# Altium integrated library Xilinx Spartan XL.IntLib: 50 symbols (part 2 of 5)
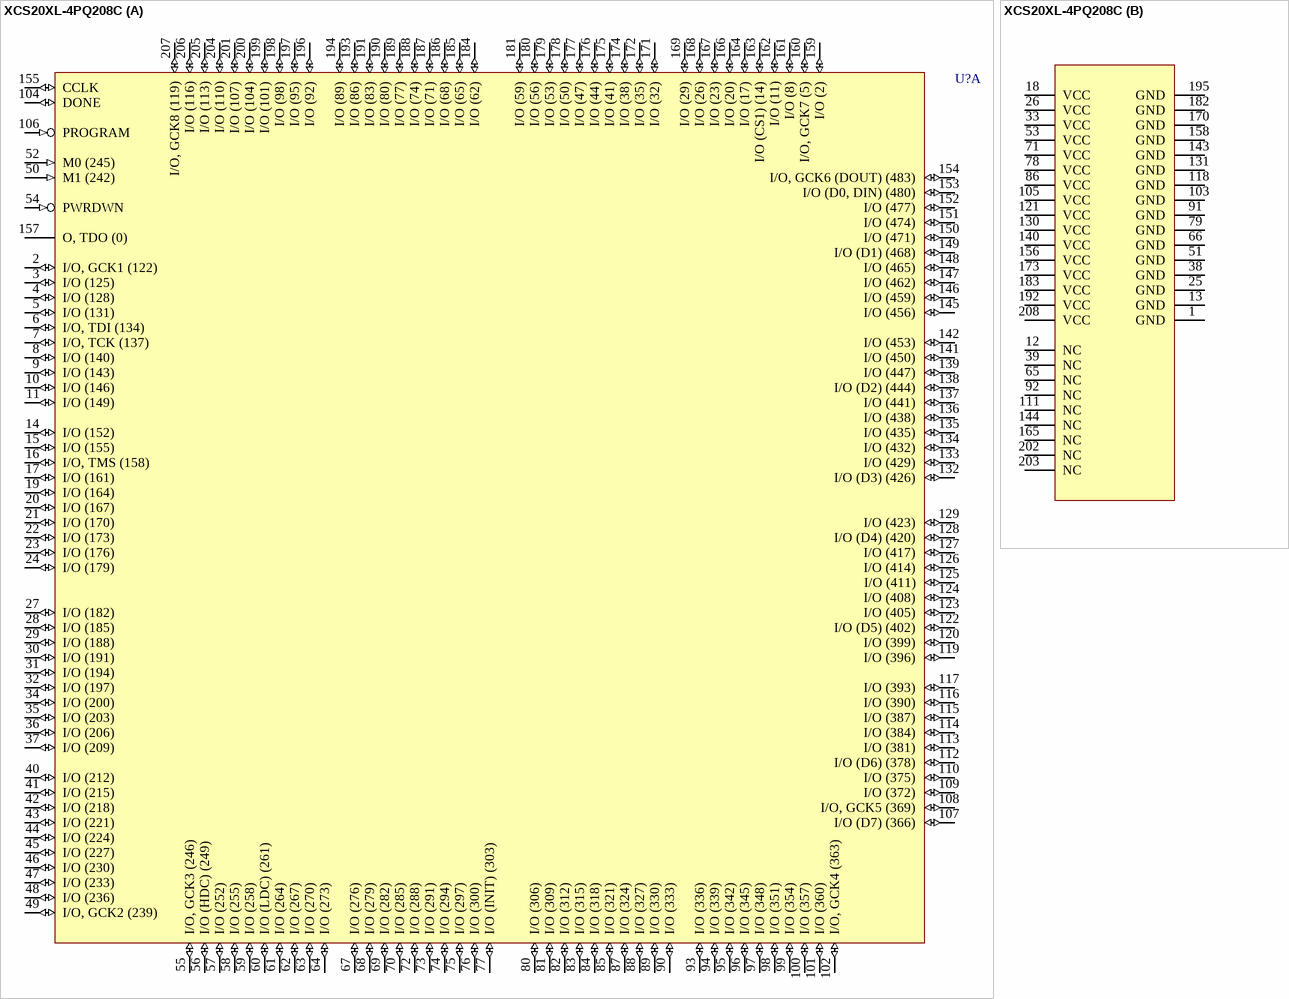
[diagram p33: symbol XCS20XL-4PQ208C]

## XCS20XL-4PQ208C
designator U?
Spartan XL FPGA, 208-Pin PQFP, Commercial Grade; Published: 13-Jul-2001; LatestRevisionDate: 13-Apr-2006; LatestRevisionNote: IPC-7351 Footprint Added.; DatasheetVersion: Jun-2002; PackageVersion: ver1.2, Jun-2004; PackageReference: PQ208; Publisher: Altium Limited; PackageDescription: 208-Pin Plastic Quad Flat Pack (PQ208); Code_JEDEC: MS-029-FA-1; ComponentLink1Description: Manufacturer Link; ComponentLink1URL: http://www.xilinx.com/xlnx/xil_prodcat_landingpage.jsp?title=Spartan; ComponentLink2Description: Datasheet; ComponentLink2URL: http://www.xilinx.com/bvdocs/publications/ds060.pdf
footprint PQ208_N (Shrink QFP, 208-Leads, Body 28x28mm, Pitch 0.5mm, IPC Medium Density)
footprint PQ208_L (Shrink QFP, 208-Leads, Body 28x28mm, Pitch 0.5mm, IPC High Density)
footprint PQ208_M (Shrink QFP, 208-Leads, Body 28x28mm, Pitch 0.5mm, IPC Low Density)
3D model XCS20XL-PQ208 (208-Pin Plastic Quad Flat Pack (PQ208))
part A pins: 2 I/O, GCK1 (122) (io), 3 I/O (125) (io), 4 I/O (128) (io), 5 I/O (131) (io), 6 I/O, TDI (134) (io), 7 I/O, TCK (137) (io), 8 I/O (140) (io), 9 I/O (143) (io), 10 I/O (146) (io), 11 I/O (149) (io), 14 I/O (152) (io), 15 I/O (155) (io), 16 I/O, TMS (158) (io), 17 I/O (161) (io), 19 I/O (164) (io), 20 I/O (167) (io), 21 I/O (170) (io), 22 I/O (173) (io), 23 I/O (176) (io), 24 I/O (179) (io), 27 I/O (182) (io), 28 I/O (185) (io), 29 I/O (188) (io), 30 I/O (191) (io), 31 I/O (194) (io), 32 I/O (197) (io), 34 I/O (200) (io), 35 I/O (203) (io), 36 I/O (206) (io), 37 I/O (209) (io), 40 I/O (212) (io), 41 I/O (215) (io), 42 I/O (218) (io), 43 I/O (221) (io), 44 I/O (224) (io), 45 I/O (227) (io), 46 I/O (230) (io), 47 I/O (233) (io), 48 I/O (236) (io), 49 I/O, GCK2 (239) (io), 50 M1 (242) (in), 52 M0 (245) (in), 54 PWRDWN (in), 55 I/O, GCK3 (246) (io), 56 I/O (HDC) (249) (io), 57 I/O (252) (io), 58 I/O (255) (io), 59 I/O (258) (io), 60 I/O (LDC) (261) (io), 61 I/O (264) (io), 62 I/O (267) (io), 63 I/O (270) (io), 64 I/O (273) (io), 67 I/O (276) (io), 68 I/O (279) (io), 69 I/O (282) (io), 70 I/O (285) (io), 72 I/O (288) (io), 73 I/O (291) (io), 74 I/O (294) (io), 75 I/O (297) (io), 76 I/O (300) (io), 77 I/O (INIT) (303) (io), 80 I/O (306) (io), 81 I/O (309) (io), 82 I/O (312) (io), 83 I/O (315) (io), 84 I/O (318) (io), 85 I/O (321) (io), 87 I/O (324) (io), 88 I/O (327) (io), 89 I/O (330) (io), 90 I/O (333) (io), 93 I/O (336) (io), 94 I/O (339) (io), 95 I/O (342) (io), 96 I/O (345) (io), 97 I/O (348) (io), 98 I/O (351) (io), 99 I/O (354) (io), 100 I/O (357) (io), 101 I/O (360) (io), 102 I/O, GCK4 (363) (io), 104 DONE (io), 106 PROGRAM (in), 107 I/O (D7) (366) (io), 108 I/O, GCK5 (369) (io), 109 I/O (372) (io), 110 I/O (375) (io), 112 I/O (D6) (378) (io), 113 I/O (381) (io), 114 I/O (384) (io), 115 I/O (387) (io), 116 I/O (390) (io), 117 I/O (393) (io), 119 I/O (396) (io), 120 I/O (399) (io), 122 I/O (D5) (402) (io), 123 I/O (405) (io), 124 I/O (408) (io), 125 I/O (411) (io), 126 I/O (414) (io), 127 I/O (417) (io), 128 I/O (D4) (420) (io), 129 I/O (423) (io), 132 I/O (D3) (426) (io), 133 I/O (429) (io), 134 I/O (432) (io), 135 I/O (435) (io), 136 I/O (438) (io), 137 I/O (441) (io), 138 I/O (D2) (444) (io), 139 I/O (447) (io), 141 I/O (450) (io), 142 I/O (453) (io), 145 I/O (456) (io), 146 I/O (459) (io), 147 I/O (462) (io), 148 I/O (465) (io), 149 I/O (D1) (468) (io), 150 I/O (471) (io), 151 I/O (474) (io), 152 I/O (477) (io), 153 I/O (D0, DIN) (480) (io), 154 I/O, GCK6 (DOUT) (483) (io), 155 CCLK (io), 157 O, TDO (0) (hiz), 159 I/O (2) (io), 160 I/O, GCK7 (5) (io), 161 I/O (8) (io), 162 I/O (11) (io), 163 I/O (CS1) (14) (io), 164 I/O (17) (io), 166 I/O (20) (io), 167 I/O (23) (io), 168 I/O (26) (io), 169 I/O (29) (io), 171 I/O (32) (io), 172 I/O (35) (io), 174 I/O (38) (io), 175 I/O (41) (io), 176 I/O (44) (io), 177 I/O (47) (io), 178 I/O (50) (io), 179 I/O (53) (io), 180 I/O (56) (io), 181 I/O (59) (io), 184 I/O (62) (io), 185 I/O (65) (io), 186 I/O (68) (io), 187 I/O (71) (io), 188 I/O (74) (io), 189 I/O (77) (io), 190 I/O (80) (io), 191 I/O (83) (io), 193 I/O (86) (io), 194 I/O (89) (io), 196 I/O (92) (io), 197 I/O (95) (io), 198 I/O (98) (io), 199 I/O (101) (io), 200 I/O (104) (io), 201 I/O (107) (io), 204 I/O (110) (io), 205 I/O (113) (io), 206 I/O (116) (io), 207 I/O, GCK8 (119) (io)
part B pins: 1 GND (power), 12 NC, 13 GND (power), 18 VCC (power), 25 GND (power), 26 VCC (power), 33 VCC (power), 38 GND (power), 39 NC, 51 GND (power), 53 VCC (power), 65 NC, 66 GND (power), 71 VCC (power), 78 VCC (power), 79 GND (power), 86 VCC (power), 91 GND (power), 92 NC, 103 GND (power), 105 VCC (power), 111 NC, 118 GND (power), 121 VCC (power), 130 VCC (power), 131 GND (power), 140 VCC (power), 143 GND (power), 144 NC, 156 VCC (power), 158 GND (power), 165 NC, 170 GND (power), 173 VCC (power), 182 GND (power), 183 VCC (power), 192 VCC (power), 195 GND (power), 202 NC, 203 NC, 208 VCC (power)

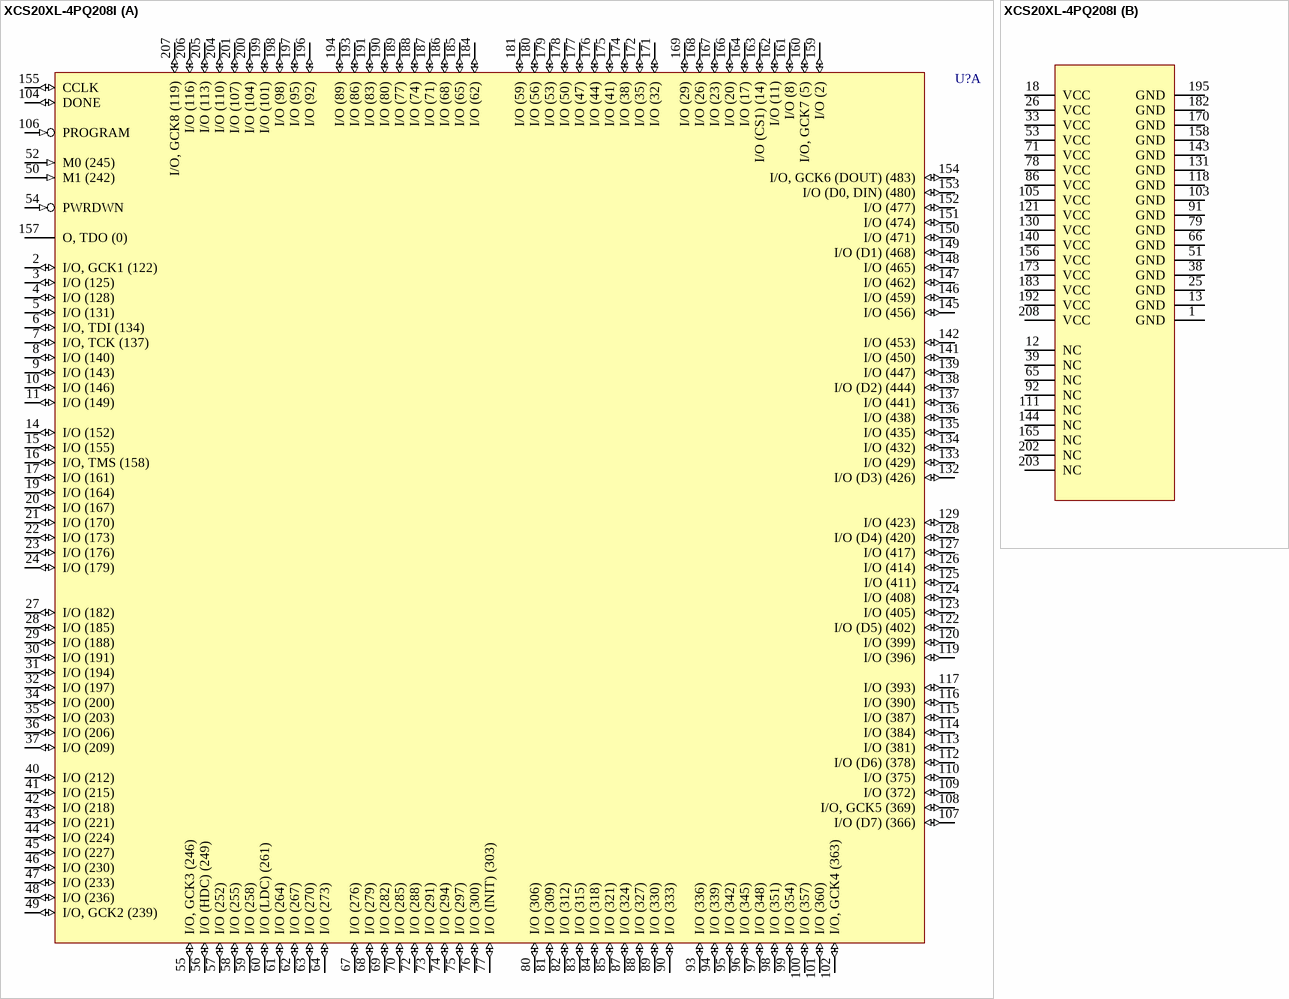
[diagram p6: symbol XCS20XL-4PQ208I]

## XCS20XL-4PQ208I
designator U?
Spartan XL FPGA, 208-Pin PQFP, Industrial Grade; Published: 13-Jul-2001; LatestRevisionDate: 13-Apr-2006; LatestRevisionNote: IPC-7351 Footprint Added.; DatasheetVersion: Jun-2002; PackageVersion: ver1.2, Jun-2004; PackageReference: PQ208; Publisher: Altium Limited; PackageDescription: 208-Pin Plastic Quad Flat Pack (PQ208); Code_JEDEC: MS-029-FA-1; ComponentLink1Description: Manufacturer Link; ComponentLink1URL: http://www.xilinx.com/xlnx/xil_prodcat_landingpage.jsp?title=Spartan; ComponentLink2Description: Datasheet; ComponentLink2URL: http://www.xilinx.com/bvdocs/publications/ds060.pdf
footprint PQ208_N (Shrink QFP, 208-Leads, Body 28x28mm, Pitch 0.5mm, IPC Medium Density)
footprint PQ208_L (Shrink QFP, 208-Leads, Body 28x28mm, Pitch 0.5mm, IPC High Density)
footprint PQ208_M (Shrink QFP, 208-Leads, Body 28x28mm, Pitch 0.5mm, IPC Low Density)
3D model XCS20XL-PQ208 (208-Pin Plastic Quad Flat Pack (PQ208))
part A pins: 2 I/O, GCK1 (122) (io), 3 I/O (125) (io), 4 I/O (128) (io), 5 I/O (131) (io), 6 I/O, TDI (134) (io), 7 I/O, TCK (137) (io), 8 I/O (140) (io), 9 I/O (143) (io), 10 I/O (146) (io), 11 I/O (149) (io), 14 I/O (152) (io), 15 I/O (155) (io), 16 I/O, TMS (158) (io), 17 I/O (161) (io), 19 I/O (164) (io), 20 I/O (167) (io), 21 I/O (170) (io), 22 I/O (173) (io), 23 I/O (176) (io), 24 I/O (179) (io), 27 I/O (182) (io), 28 I/O (185) (io), 29 I/O (188) (io), 30 I/O (191) (io), 31 I/O (194) (io), 32 I/O (197) (io), 34 I/O (200) (io), 35 I/O (203) (io), 36 I/O (206) (io), 37 I/O (209) (io), 40 I/O (212) (io), 41 I/O (215) (io), 42 I/O (218) (io), 43 I/O (221) (io), 44 I/O (224) (io), 45 I/O (227) (io), 46 I/O (230) (io), 47 I/O (233) (io), 48 I/O (236) (io), 49 I/O, GCK2 (239) (io), 50 M1 (242) (in), 52 M0 (245) (in), 54 PWRDWN (in), 55 I/O, GCK3 (246) (io), 56 I/O (HDC) (249) (io), 57 I/O (252) (io), 58 I/O (255) (io), 59 I/O (258) (io), 60 I/O (LDC) (261) (io), 61 I/O (264) (io), 62 I/O (267) (io), 63 I/O (270) (io), 64 I/O (273) (io), 67 I/O (276) (io), 68 I/O (279) (io), 69 I/O (282) (io), 70 I/O (285) (io), 72 I/O (288) (io), 73 I/O (291) (io), 74 I/O (294) (io), 75 I/O (297) (io), 76 I/O (300) (io), 77 I/O (INIT) (303) (io), 80 I/O (306) (io), 81 I/O (309) (io), 82 I/O (312) (io), 83 I/O (315) (io), 84 I/O (318) (io), 85 I/O (321) (io), 87 I/O (324) (io), 88 I/O (327) (io), 89 I/O (330) (io), 90 I/O (333) (io), 93 I/O (336) (io), 94 I/O (339) (io), 95 I/O (342) (io), 96 I/O (345) (io), 97 I/O (348) (io), 98 I/O (351) (io), 99 I/O (354) (io), 100 I/O (357) (io), 101 I/O (360) (io), 102 I/O, GCK4 (363) (io), 104 DONE (io), 106 PROGRAM (in), 107 I/O (D7) (366) (io), 108 I/O, GCK5 (369) (io), 109 I/O (372) (io), 110 I/O (375) (io), 112 I/O (D6) (378) (io), 113 I/O (381) (io), 114 I/O (384) (io), 115 I/O (387) (io), 116 I/O (390) (io), 117 I/O (393) (io), 119 I/O (396) (io), 120 I/O (399) (io), 122 I/O (D5) (402) (io), 123 I/O (405) (io), 124 I/O (408) (io), 125 I/O (411) (io), 126 I/O (414) (io), 127 I/O (417) (io), 128 I/O (D4) (420) (io), 129 I/O (423) (io), 132 I/O (D3) (426) (io), 133 I/O (429) (io), 134 I/O (432) (io), 135 I/O (435) (io), 136 I/O (438) (io), 137 I/O (441) (io), 138 I/O (D2) (444) (io), 139 I/O (447) (io), 141 I/O (450) (io), 142 I/O (453) (io), 145 I/O (456) (io), 146 I/O (459) (io), 147 I/O (462) (io), 148 I/O (465) (io), 149 I/O (D1) (468) (io), 150 I/O (471) (io), 151 I/O (474) (io), 152 I/O (477) (io), 153 I/O (D0, DIN) (480) (io), 154 I/O, GCK6 (DOUT) (483) (io), 155 CCLK (io), 157 O, TDO (0) (hiz), 159 I/O (2) (io), 160 I/O, GCK7 (5) (io), 161 I/O (8) (io), 162 I/O (11) (io), 163 I/O (CS1) (14) (io), 164 I/O (17) (io), 166 I/O (20) (io), 167 I/O (23) (io), 168 I/O (26) (io), 169 I/O (29) (io), 171 I/O (32) (io), 172 I/O (35) (io), 174 I/O (38) (io), 175 I/O (41) (io), 176 I/O (44) (io), 177 I/O (47) (io), 178 I/O (50) (io), 179 I/O (53) (io), 180 I/O (56) (io), 181 I/O (59) (io), 184 I/O (62) (io), 185 I/O (65) (io), 186 I/O (68) (io), 187 I/O (71) (io), 188 I/O (74) (io), 189 I/O (77) (io), 190 I/O (80) (io), 191 I/O (83) (io), 193 I/O (86) (io), 194 I/O (89) (io), 196 I/O (92) (io), 197 I/O (95) (io), 198 I/O (98) (io), 199 I/O (101) (io), 200 I/O (104) (io), 201 I/O (107) (io), 204 I/O (110) (io), 205 I/O (113) (io), 206 I/O (116) (io), 207 I/O, GCK8 (119) (io)
part B pins: 1 GND (power), 12 NC, 13 GND (power), 18 VCC (power), 25 GND (power), 26 VCC (power), 33 VCC (power), 38 GND (power), 39 NC, 51 GND (power), 53 VCC (power), 65 NC, 66 GND (power), 71 VCC (power), 78 VCC (power), 79 GND (power), 86 VCC (power), 91 GND (power), 92 NC, 103 GND (power), 105 VCC (power), 111 NC, 118 GND (power), 121 VCC (power), 130 VCC (power), 131 GND (power), 140 VCC (power), 143 GND (power), 144 NC, 156 VCC (power), 158 GND (power), 165 NC, 170 GND (power), 173 VCC (power), 182 GND (power), 183 VCC (power), 192 VCC (power), 195 GND (power), 202 NC, 203 NC, 208 VCC (power)

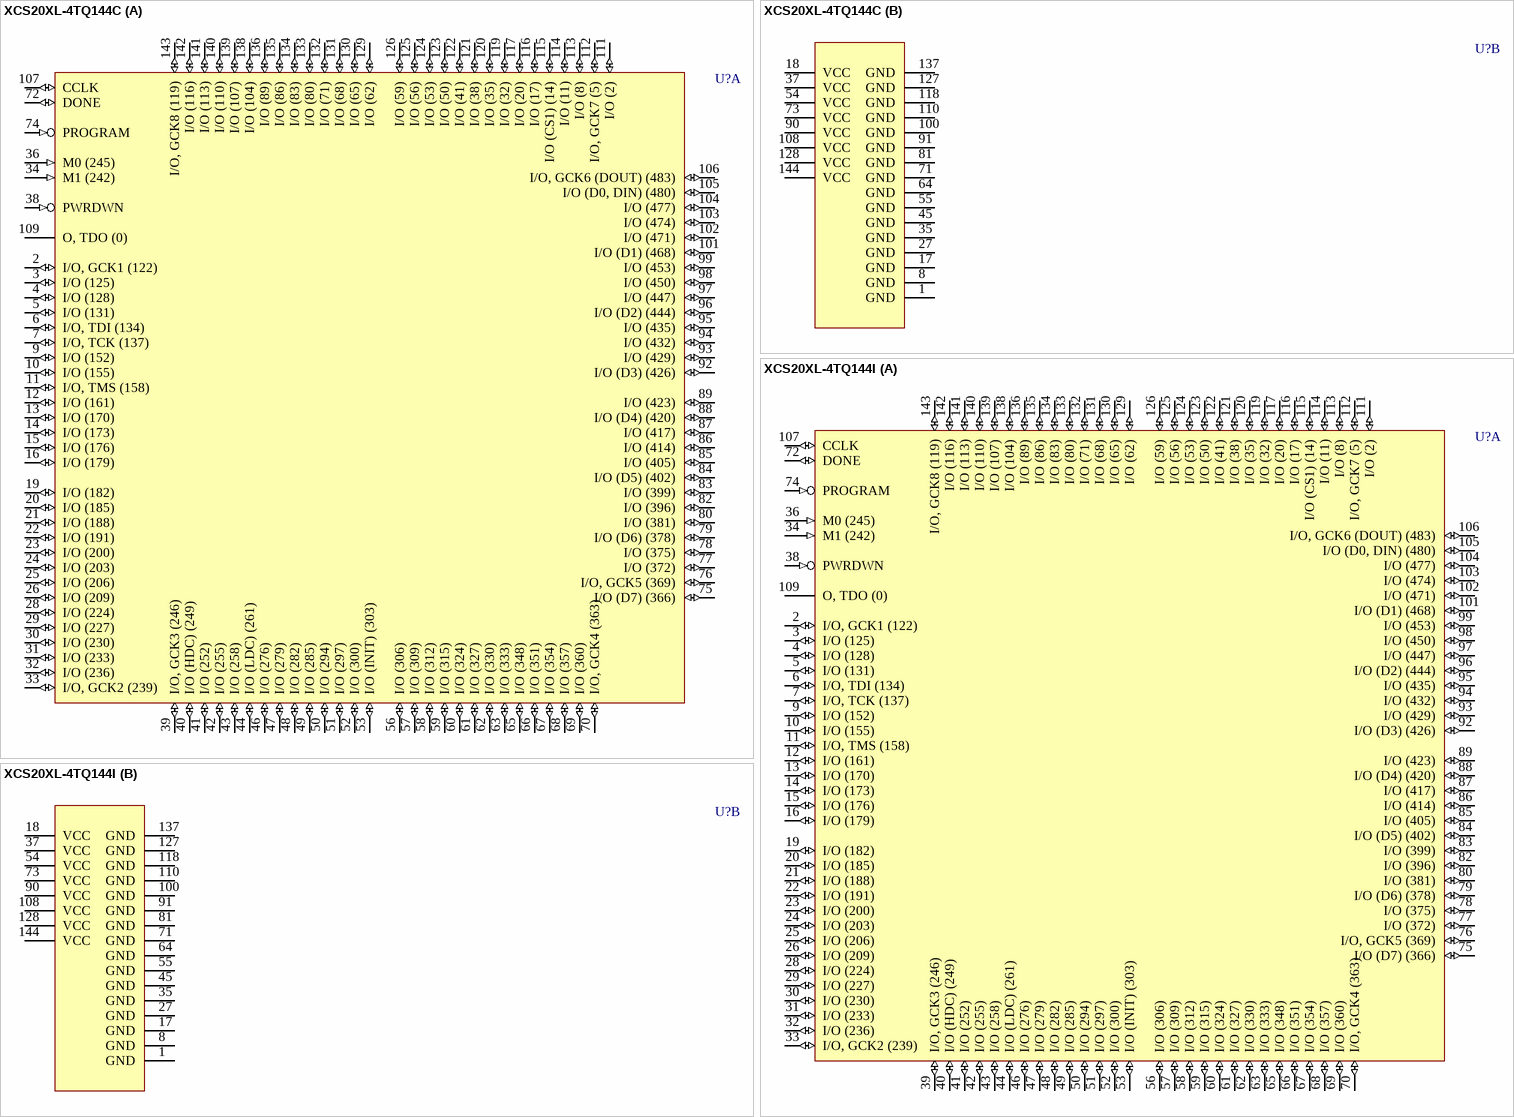
[diagram p7: symbols XCS20XL-4TQ144C to XCS20XL-4TQ144I]

## XCS20XL-4TQ144C
designator U?
Spartan XL FPGA, 144-Pin TQFP, Commercial Grade; Published: 13-Jul-2001; LatestRevisionDate: 13-Apr-2006; LatestRevisionNote: IPC-7351 Footprint Added.; DatasheetVersion: Jun-2002; PackageVersion: ver1.2, Jun-2004; PackageReference: TQ144; Publisher: Altium Limited; PackageDescription: 144-Pin Thin Quad Flat Pack (TQ144); Code_JEDEC: MS-026-BFB; ComponentLink1Description: Manufacturer Link; ComponentLink1URL: http://www.xilinx.com/xlnx/xil_prodcat_landingpage.jsp?title=Spartan; ComponentLink2Description: Datasheet; ComponentLink2URL: http://www.xilinx.com/bvdocs/publications/ds060.pdf
footprint TQ144_N (Thin QFP, 144-Leads, Body 20x20mm, Pitch 0.5mm, IPC Medium Density)
footprint TQ144_L (Thin QFP, 144-Leads, Body 20x20mm, Pitch 0.5mm, IPC High Density)
footprint TQ144_M (Thin QFP, 144-Leads, Body 20x20mm, Pitch 0.5mm, IPC Low Density)
3D model XCS20XL-TQ144 (144-Pin Thin Quad Flat Pack (TQ144))
part A pins: 2 I/O, GCK1 (122) (io), 3 I/O (125) (io), 4 I/O (128) (io), 5 I/O (131) (io), 6 I/O, TDI (134) (io), 7 I/O, TCK (137) (io), 9 I/O (152) (io), 10 I/O (155) (io), 11 I/O, TMS (158) (io), 12 I/O (161) (io), 13 I/O (170) (io), 14 I/O (173) (io), 15 I/O (176) (io), 16 I/O (179) (io), 19 I/O (182) (io), 20 I/O (185) (io), 21 I/O (188) (io), 22 I/O (191) (io), 23 I/O (200) (io), 24 I/O (203) (io), 25 I/O (206) (io), 26 I/O (209) (io), 28 I/O (224) (io), 29 I/O (227) (io), 30 I/O (230) (io), 31 I/O (233) (io), 32 I/O (236) (io), 33 I/O, GCK2 (239) (io), 34 M1 (242) (in), 36 M0 (245) (in), 38 PWRDWN (in), 39 I/O, GCK3 (246) (io), 40 I/O (HDC) (249) (io), 41 I/O (252) (io), 42 I/O (255) (io), 43 I/O (258) (io), 44 I/O (LDC) (261) (io), 46 I/O (276) (io), 47 I/O (279) (io), 48 I/O (282) (io), 49 I/O (285) (io), 50 I/O (294) (io), 51 I/O (297) (io), 52 I/O (300) (io), 53 I/O (INIT) (303) (io), 56 I/O (306) (io), 57 I/O (309) (io), 58 I/O (312) (io), 59 I/O (315) (io), 60 I/O (324) (io), 61 I/O (327) (io), 62 I/O (330) (io), 63 I/O (333) (io), 65 I/O (348) (io), 66 I/O (351) (io), 67 I/O (354) (io), 68 I/O (357) (io), 69 I/O (360) (io), 70 I/O, GCK4 (363) (io), 72 DONE (io), 74 PROGRAM (in), 75 I/O (D7) (366) (io), 76 I/O, GCK5 (369) (io), 77 I/O (372) (io), 78 I/O (375) (io), 79 I/O (D6) (378) (io), 80 I/O (381) (io), 82 I/O (396) (io), 83 I/O (399) (io), 84 I/O (D5) (402) (io), 85 I/O (405) (io), 86 I/O (414) (io), 87 I/O (417) (io), 88 I/O (D4) (420) (io), 89 I/O (423) (io), 92 I/O (D3) (426) (io), 93 I/O (429) (io), 94 I/O (432) (io), 95 I/O (435) (io), 96 I/O (D2) (444) (io), 97 I/O (447) (io), 98 I/O (450) (io), 99 I/O (453) (io), 101 I/O (D1) (468) (io), 102 I/O (471) (io), 103 I/O (474) (io), 104 I/O (477) (io), 105 I/O (D0, DIN) (480) (io), 106 I/O, GCK6 (DOUT) (483) (io), 107 CCLK (io), 109 O, TDO (0) (hiz), 111 I/O (2) (io), 112 I/O, GCK7 (5) (io), 113 I/O (8) (io), 114 I/O (11) (io), 115 I/O (CS1) (14) (io), 116 I/O (17) (io), 117 I/O (20) (io), 119 I/O (32) (io), 120 I/O (35) (io), 121 I/O (38) (io), 122 I/O (41) (io), 123 I/O (50) (io), 124 I/O (53) (io), 125 I/O (56) (io), 126 I/O (59) (io), 129 I/O (62) (io), 130 I/O (65) (io), 131 I/O (68) (io), 132 I/O (71) (io), 133 I/O (80) (io), 134 I/O (83) (io), 135 I/O (86) (io), 136 I/O (89) (io), 138 I/O (104) (io), 139 I/O (107) (io), 140 I/O (110) (io), 141 I/O (113) (io), 142 I/O (116) (io), 143 I/O, GCK8 (119) (io)
part B pins: 1 GND (power), 8 GND (power), 17 GND (power), 18 VCC (power), 27 GND (power), 35 GND (power), 37 VCC (power), 45 GND (power), 54 VCC (power), 55 GND (power), 64 GND (power), 71 GND (power), 73 VCC (power), 81 GND (power), 90 VCC (power), 91 GND (power), 100 GND (power), 108 VCC (power), 110 GND (power), 118 GND (power), 127 GND (power), 128 VCC (power), 137 GND (power), 144 VCC (power)

## XCS20XL-4TQ144I
designator U?
Spartan XL FPGA, 144-Pin TQFP, Industrial Grade; Published: 13-Jul-2001; LatestRevisionDate: 13-Apr-2006; LatestRevisionNote: IPC-7351 Footprint Added.; DatasheetVersion: Jun-2002; PackageVersion: ver1.2, Jun-2004; PackageReference: TQ144; Publisher: Altium Limited; PackageDescription: 144-Pin Thin Quad Flat Pack (TQ144); Code_JEDEC: MS-026-BFB; ComponentLink1Description: Manufacturer Link; ComponentLink1URL: http://www.xilinx.com/xlnx/xil_prodcat_landingpage.jsp?title=Spartan; ComponentLink2Description: Datasheet; ComponentLink2URL: http://www.xilinx.com/bvdocs/publications/ds060.pdf
footprint TQ144_N (Thin QFP, 144-Leads, Body 20x20mm, Pitch 0.5mm, IPC Medium Density)
footprint TQ144_L (Thin QFP, 144-Leads, Body 20x20mm, Pitch 0.5mm, IPC High Density)
footprint TQ144_M (Thin QFP, 144-Leads, Body 20x20mm, Pitch 0.5mm, IPC Low Density)
3D model XCS20XL-TQ144 (144-Pin Thin Quad Flat Pack (TQ144))
part A pins: 2 I/O, GCK1 (122) (io), 3 I/O (125) (io), 4 I/O (128) (io), 5 I/O (131) (io), 6 I/O, TDI (134) (io), 7 I/O, TCK (137) (io), 9 I/O (152) (io), 10 I/O (155) (io), 11 I/O, TMS (158) (io), 12 I/O (161) (io), 13 I/O (170) (io), 14 I/O (173) (io), 15 I/O (176) (io), 16 I/O (179) (io), 19 I/O (182) (io), 20 I/O (185) (io), 21 I/O (188) (io), 22 I/O (191) (io), 23 I/O (200) (io), 24 I/O (203) (io), 25 I/O (206) (io), 26 I/O (209) (io), 28 I/O (224) (io), 29 I/O (227) (io), 30 I/O (230) (io), 31 I/O (233) (io), 32 I/O (236) (io), 33 I/O, GCK2 (239) (io), 34 M1 (242) (in), 36 M0 (245) (in), 38 PWRDWN (in), 39 I/O, GCK3 (246) (io), 40 I/O (HDC) (249) (io), 41 I/O (252) (io), 42 I/O (255) (io), 43 I/O (258) (io), 44 I/O (LDC) (261) (io), 46 I/O (276) (io), 47 I/O (279) (io), 48 I/O (282) (io), 49 I/O (285) (io), 50 I/O (294) (io), 51 I/O (297) (io), 52 I/O (300) (io), 53 I/O (INIT) (303) (io), 56 I/O (306) (io), 57 I/O (309) (io), 58 I/O (312) (io), 59 I/O (315) (io), 60 I/O (324) (io), 61 I/O (327) (io), 62 I/O (330) (io), 63 I/O (333) (io), 65 I/O (348) (io), 66 I/O (351) (io), 67 I/O (354) (io), 68 I/O (357) (io), 69 I/O (360) (io), 70 I/O, GCK4 (363) (io), 72 DONE (io), 74 PROGRAM (in), 75 I/O (D7) (366) (io), 76 I/O, GCK5 (369) (io), 77 I/O (372) (io), 78 I/O (375) (io), 79 I/O (D6) (378) (io), 80 I/O (381) (io), 82 I/O (396) (io), 83 I/O (399) (io), 84 I/O (D5) (402) (io), 85 I/O (405) (io), 86 I/O (414) (io), 87 I/O (417) (io), 88 I/O (D4) (420) (io), 89 I/O (423) (io), 92 I/O (D3) (426) (io), 93 I/O (429) (io), 94 I/O (432) (io), 95 I/O (435) (io), 96 I/O (D2) (444) (io), 97 I/O (447) (io), 98 I/O (450) (io), 99 I/O (453) (io), 101 I/O (D1) (468) (io), 102 I/O (471) (io), 103 I/O (474) (io), 104 I/O (477) (io), 105 I/O (D0, DIN) (480) (io), 106 I/O, GCK6 (DOUT) (483) (io), 107 CCLK (io), 109 O, TDO (0) (hiz), 111 I/O (2) (io), 112 I/O, GCK7 (5) (io), 113 I/O (8) (io), 114 I/O (11) (io), 115 I/O (CS1) (14) (io), 116 I/O (17) (io), 117 I/O (20) (io), 119 I/O (32) (io), 120 I/O (35) (io), 121 I/O (38) (io), 122 I/O (41) (io), 123 I/O (50) (io), 124 I/O (53) (io), 125 I/O (56) (io), 126 I/O (59) (io), 129 I/O (62) (io), 130 I/O (65) (io), 131 I/O (68) (io), 132 I/O (71) (io), 133 I/O (80) (io), 134 I/O (83) (io), 135 I/O (86) (io), 136 I/O (89) (io), 138 I/O (104) (io), 139 I/O (107) (io), 140 I/O (110) (io), 141 I/O (113) (io), 142 I/O (116) (io), 143 I/O, GCK8 (119) (io)
part B pins: 1 GND (power), 8 GND (power), 17 GND (power), 18 VCC (power), 27 GND (power), 35 GND (power), 37 VCC (power), 45 GND (power), 54 VCC (power), 55 GND (power), 64 GND (power), 71 GND (power), 73 VCC (power), 81 GND (power), 90 VCC (power), 91 GND (power), 100 GND (power), 108 VCC (power), 110 GND (power), 118 GND (power), 127 GND (power), 128 VCC (power), 137 GND (power), 144 VCC (power)

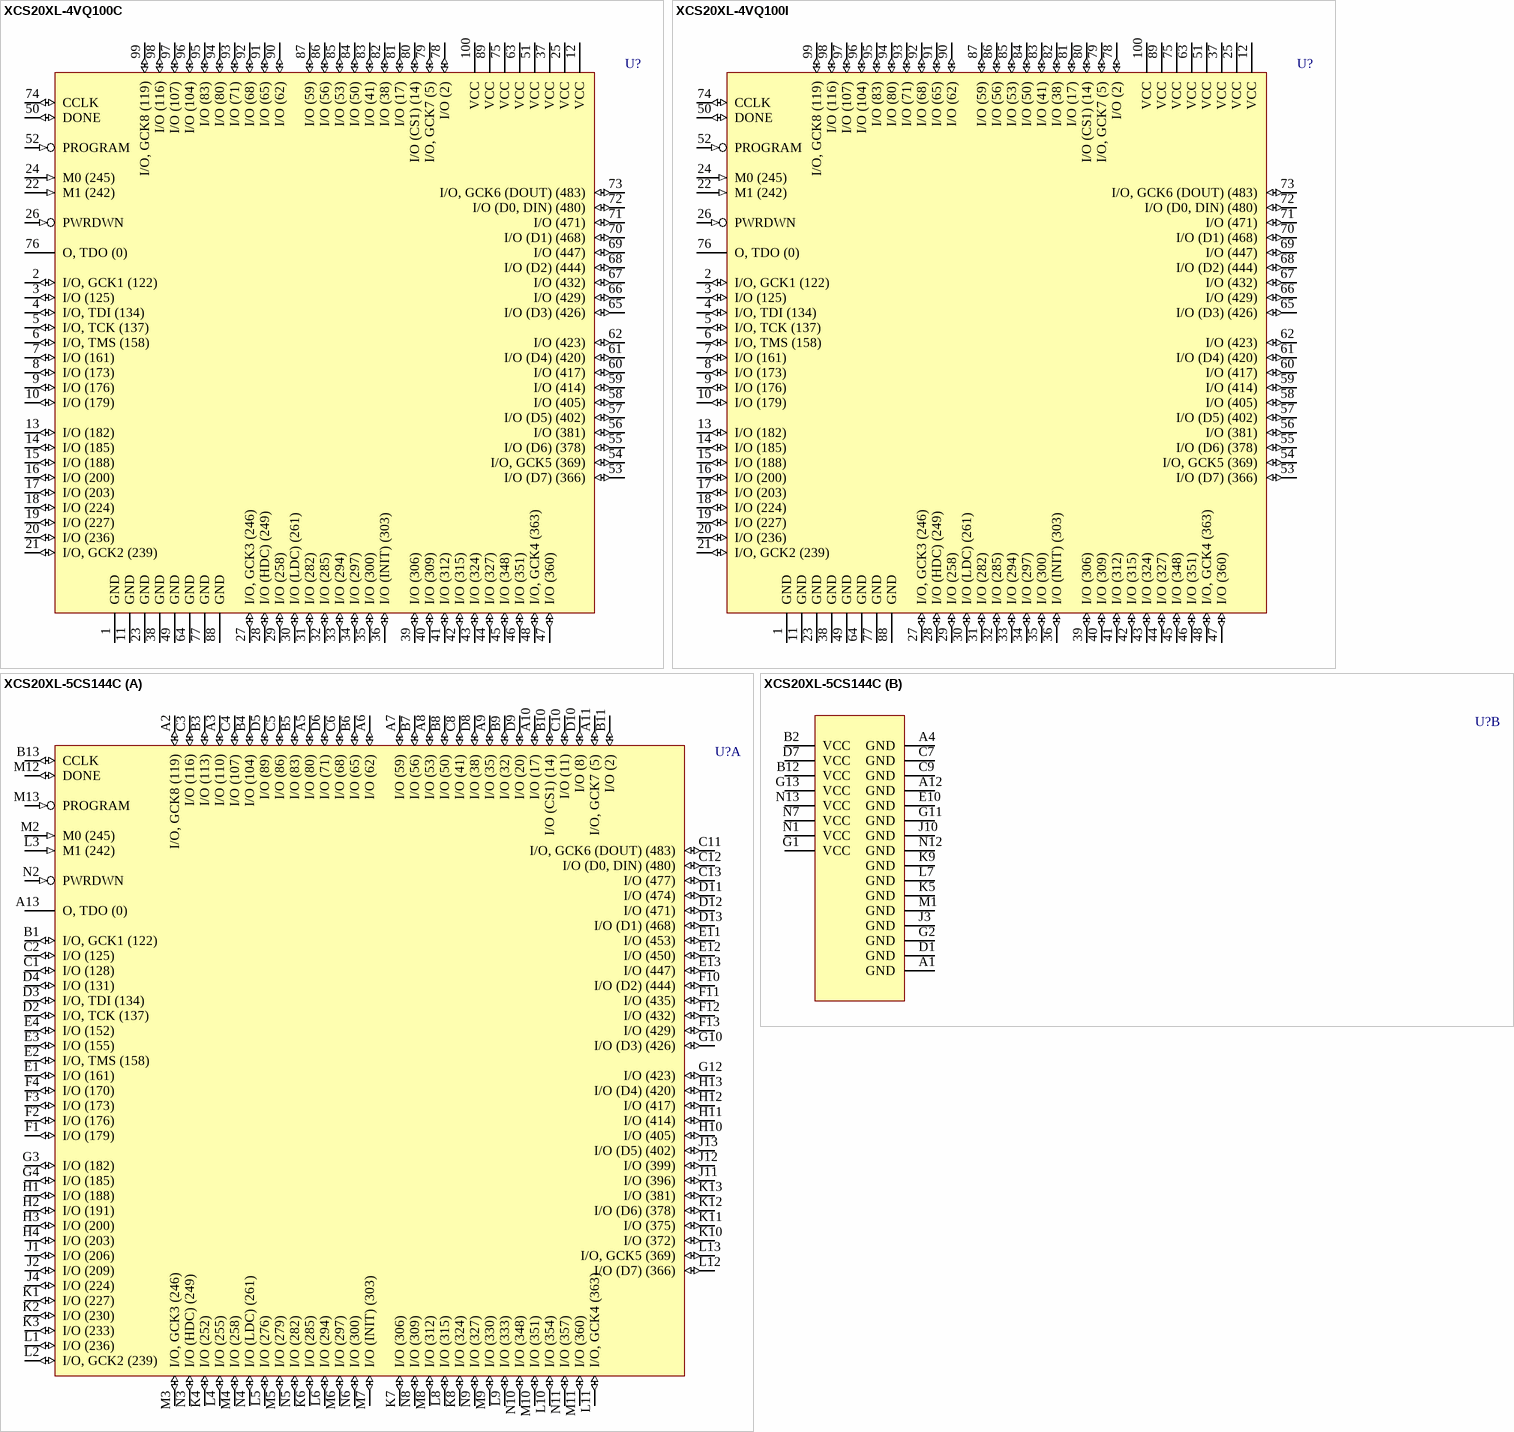
[diagram p8: symbols XCS20XL-4VQ100C to XCS20XL-5CS144C]

## XCS20XL-4VQ100C
designator U?
Spartan XL FPGA, 100-Pin VQFP, Commercial Grade; Published: 13-Jul-2001; LatestRevisionDate: 13-Apr-2006; LatestRevisionNote: IPC-7351 Footprint Added.; DatasheetVersion: Jun-2002; PackageVersion: ver1.2, Jun-2004; PackageReference: VQ100; Publisher: Altium Limited; PackageDescription: 100-Pin Very Thin Quad Flat Pack (VQ100); Code_JEDEC: MS-026-AED; ComponentLink1Description: Manufacturer Link; ComponentLink1URL: http://www.xilinx.com/xlnx/xil_prodcat_landingpage.jsp?title=Spartan; ComponentLink2Description: Datasheet; ComponentLink2URL: http://www.xilinx.com/bvdocs/publications/ds060.pdf
footprint VQ100_N (Thin QFP, 100-Leads, Body 14x14mm, Pitch 0.5mm, IPC Medium Density)
footprint VQ100_L (Thin QFP, 100-Leads, Body 14x14mm, Pitch 0.5mm, IPC High Density)
footprint VQ100_M (Thin QFP, 100-Leads, Body 14x14mm, Pitch 0.5mm, IPC Low Density)
3D model XCS20XL-VQ100 (100-Pin Very Thin Quad Flat Pack (VQ100))
pins: 1 GND (power), 2 I/O, GCK1 (122) (io), 3 I/O (125) (io), 4 I/O, TDI (134) (io), 5 I/O, TCK (137) (io), 6 I/O, TMS (158) (io), 7 I/O (161) (io), 8 I/O (173) (io), 9 I/O (176) (io), 10 I/O (179) (io), 11 GND (power), 12 VCC (power), 13 I/O (182) (io), 14 I/O (185) (io), 15 I/O (188) (io), 16 I/O (200) (io), 17 I/O (203) (io), 18 I/O (224) (io), 19 I/O (227) (io), 20 I/O (236) (io), 21 I/O, GCK2 (239) (io), 22 M1 (242) (in), 23 GND (power), 24 M0 (245) (in), 25 VCC (power), 26 PWRDWN (in), 27 I/O, GCK3 (246) (io), 28 I/O (HDC) (249) (io), 29 I/O (258) (io), 30 I/O (LDC) (261) (io), 31 I/O (282) (io), 32 I/O (285) (io), 33 I/O (294) (io), 34 I/O (297) (io), 35 I/O (300) (io), 36 I/O (INIT) (303) (io), 37 VCC (power), 38 GND (power), 39 I/O (306) (io), 40 I/O (309) (io), 41 I/O (312) (io), 42 I/O (315) (io), 43 I/O (324) (io), 44 I/O (327) (io), 45 I/O (348) (io), 46 I/O (351) (io), 47 I/O (360) (io), 48 I/O, GCK4 (363) (io), 49 GND (power), 50 DONE (io), 51 VCC (power), 52 PROGRAM (in), 53 I/O (D7) (366) (io), 54 I/O, GCK5 (369) (io), 55 I/O (D6) (378) (io), 56 I/O (381) (io), 57 I/O (D5) (402) (io), 58 I/O (405) (io), 59 I/O (414) (io), 60 I/O (417) (io), 61 I/O (D4) (420) (io), 62 I/O (423) (io), 63 VCC (power), 64 GND (power), 65 I/O (D3) (426) (io), 66 I/O (429) (io), 67 I/O (432) (io), 68 I/O (D2) (444) (io), 69 I/O (447) (io), 70 I/O (D1) (468) (io), 71 I/O (471) (io), 72 I/O (D0, DIN) (480) (io), 73 I/O, GCK6 (DOUT) (483) (io), 74 CCLK (io), 75 VCC (power), 76 O, TDO (0) (hiz), 77 GND (power), 78 I/O (2) (io), 79 I/O, GCK7 (5) (io), 80 I/O (CS1) (14) (io), 81 I/O (17) (io), 82 I/O (38) (io), 83 I/O (41) (io), 84 I/O (50) (io), 85 I/O (53) (io), 86 I/O (56) (io), 87 I/O (59) (io), 88 GND (power), 89 VCC (power), 90 I/O (62) (io), 91 I/O (65) (io), 92 I/O (68) (io), 93 I/O (71) (io), 94 I/O (80) (io), 95 I/O (83) (io), 96 I/O (104) (io), 97 I/O (107) (io), 98 I/O (116) (io), 99 I/O, GCK8 (119) (io), 100 VCC (power)

## XCS20XL-4VQ100I
designator U?
Spartan XL FPGA, 100-Pin VQFP, Industrial Grade; Published: 17-Sep-2003; LatestRevisionDate: 13-Apr-2006; LatestRevisionNote: IPC-7351 Footprint Added.; DatasheetVersion: Jun-2002; PackageVersion: ver1.2, Jun-2004; PackageReference: VQ100; Publisher: Altium Limited; PackageDescription: 100-Pin Very Thin Quad Flat Pack (VQ100); Code_JEDEC: MS-026-AED; ComponentLink1Description: Manufacturer Link; ComponentLink1URL: http://www.xilinx.com/xlnx/xil_prodcat_landingpage.jsp?title=Spartan; ComponentLink2Description: Datasheet; ComponentLink2URL: http://www.xilinx.com/bvdocs/publications/ds060.pdf
footprint VQ100_N (Thin QFP, 100-Leads, Body 14x14mm, Pitch 0.5mm, IPC Medium Density)
footprint VQ100_L (Thin QFP, 100-Leads, Body 14x14mm, Pitch 0.5mm, IPC High Density)
footprint VQ100_M (Thin QFP, 100-Leads, Body 14x14mm, Pitch 0.5mm, IPC Low Density)
3D model XCS20XL-VQ100 (100-Pin Very Thin Quad Flat Pack (VQ100))
pins: 1 GND (power), 2 I/O, GCK1 (122) (io), 3 I/O (125) (io), 4 I/O, TDI (134) (io), 5 I/O, TCK (137) (io), 6 I/O, TMS (158) (io), 7 I/O (161) (io), 8 I/O (173) (io), 9 I/O (176) (io), 10 I/O (179) (io), 11 GND (power), 12 VCC (power), 13 I/O (182) (io), 14 I/O (185) (io), 15 I/O (188) (io), 16 I/O (200) (io), 17 I/O (203) (io), 18 I/O (224) (io), 19 I/O (227) (io), 20 I/O (236) (io), 21 I/O, GCK2 (239) (io), 22 M1 (242) (in), 23 GND (power), 24 M0 (245) (in), 25 VCC (power), 26 PWRDWN (in), 27 I/O, GCK3 (246) (io), 28 I/O (HDC) (249) (io), 29 I/O (258) (io), 30 I/O (LDC) (261) (io), 31 I/O (282) (io), 32 I/O (285) (io), 33 I/O (294) (io), 34 I/O (297) (io), 35 I/O (300) (io), 36 I/O (INIT) (303) (io), 37 VCC (power), 38 GND (power), 39 I/O (306) (io), 40 I/O (309) (io), 41 I/O (312) (io), 42 I/O (315) (io), 43 I/O (324) (io), 44 I/O (327) (io), 45 I/O (348) (io), 46 I/O (351) (io), 47 I/O (360) (io), 48 I/O, GCK4 (363) (io), 49 GND (power), 50 DONE (io), 51 VCC (power), 52 PROGRAM (in), 53 I/O (D7) (366) (io), 54 I/O, GCK5 (369) (io), 55 I/O (D6) (378) (io), 56 I/O (381) (io), 57 I/O (D5) (402) (io), 58 I/O (405) (io), 59 I/O (414) (io), 60 I/O (417) (io), 61 I/O (D4) (420) (io), 62 I/O (423) (io), 63 VCC (power), 64 GND (power), 65 I/O (D3) (426) (io), 66 I/O (429) (io), 67 I/O (432) (io), 68 I/O (D2) (444) (io), 69 I/O (447) (io), 70 I/O (D1) (468) (io), 71 I/O (471) (io), 72 I/O (D0, DIN) (480) (io), 73 I/O, GCK6 (DOUT) (483) (io), 74 CCLK (io), 75 VCC (power), 76 O, TDO (0) (hiz), 77 GND (power), 78 I/O (2) (io), 79 I/O, GCK7 (5) (io), 80 I/O (CS1) (14) (io), 81 I/O (17) (io), 82 I/O (38) (io), 83 I/O (41) (io), 84 I/O (50) (io), 85 I/O (53) (io), 86 I/O (56) (io), 87 I/O (59) (io), 88 GND (power), 89 VCC (power), 90 I/O (62) (io), 91 I/O (65) (io), 92 I/O (68) (io), 93 I/O (71) (io), 94 I/O (80) (io), 95 I/O (83) (io), 96 I/O (104) (io), 97 I/O (107) (io), 98 I/O (116) (io), 99 I/O, GCK8 (119) (io), 100 VCC (power)

## XCS20XL-5CS144C
designator U?
Spartan XL FPGA, 144-Ball CSBGA, Commercial Grade; Published: 13-Jul-2001; LatestRevisionDate: 13-Apr-2006; LatestRevisionNote: IPC-7351 Footprint Added.; DatasheetVersion: Jun-2002; PackageVersion: ver1.2.2, Nov-2005; PackageReference: CS144; Publisher: Altium Limited; PackageDescription: 144-Ball Chip Scale Ball Grid Array (CS144); Code_JEDEC: MO-216-BAG-2 (Depopulated); ComponentLink1Description: Manufacturer Link; ComponentLink1URL: http://www.xilinx.com/xlnx/xil_prodcat_landingpage.jsp?title=Spartan; ComponentLink2Description: Datasheet; ComponentLink2URL: http://www.xilinx.com/bvdocs/publications/ds060.pdf
footprint CS144 (BGA, 144-Leads, Body 12x12mm, Pitch 0.8mm)
3D model XCS20XL-CS144 (144-Ball Chip Scale Ball Grid Array (CS144))
part A pins: A2 I/O, GCK8 (119) (io), A3 I/O (110) (io), A5 I/O (80) (io), A6 I/O (62) (io), A7 I/O (59) (io), A8 I/O (53) (io), A9 I/O (35) (io), A10 I/O (17) (io), A11 I/O, GCK7 (5) (io), A13 O, TDO (0) (hiz), B1 I/O, GCK1 (122) (io), B3 I/O (113) (io), B4 I/O (104) (io), B5 I/O (83) (io), B6 I/O (65) (io), B7 I/O (56) (io), B8 I/O (50) (io), B9 I/O (32) (io), B10 I/O (CS1) (14) (io), B11 I/O (2) (io), B13 CCLK (io), C1 I/O (128) (io), C2 I/O (125) (io), C3 I/O (116) (io), C4 I/O (107) (io), C5 I/O (86) (io), C6 I/O (68) (io), C8 I/O (41) (io), C10 I/O (11) (io), C11 I/O, GCK6 (DOUT) (483) (io), C12 I/O (D0, DIN) (480) (io), C13 I/O (477) (io), D2 I/O, TCK (137) (io), D3 I/O, TDI (134) (io), D4 I/O (131) (io), D5 I/O (89) (io), D6 I/O (71) (io), D8 I/O (38) (io), D9 I/O (20) (io), D10 I/O (8) (io), D11 I/O (474) (io), D12 I/O (471) (io), D13 I/O (D1) (468) (io), E1 I/O (161) (io), E2 I/O, TMS (158) (io), E3 I/O (155) (io), E4 I/O (152) (io), E11 I/O (453) (io), E12 I/O (450) (io), E13 I/O (447) (io), F1 I/O (179) (io), F2 I/O (176) (io), F3 I/O (173) (io), F4 I/O (170) (io), F10 I/O (D2) (444) (io), F11 I/O (435) (io), F12 I/O (432) (io), F13 I/O (429) (io), G3 I/O (182) (io), G4 I/O (185) (io), G10 I/O (D3) (426) (io), G12 I/O (423) (io), H1 I/O (188) (io), H2 I/O (191) (io), H3 I/O (200) (io), H4 I/O (203) (io), H10 I/O (405) (io), H11 I/O (414) (io), H12 I/O (417) (io), H13 I/O (D4) (420) (io), J1 I/O (206) (io), J2 I/O (209) (io), J4 I/O (224) (io), J11 I/O (396) (io), J12 I/O (399) (io), J13 I/O (D5) (402) (io), K1 I/O (227) (io), K2 I/O (230) (io), K3 I/O (233) (io), K4 I/O (252) (io), K6 I/O (285) (io), K7 I/O (306) (io), K8 I/O (324) (io), K10 I/O (372) (io), K11 I/O (375) (io), K12 I/O (D6) (378) (io), K13 I/O (381) (io), L1 I/O (236) (io), L2 I/O, GCK2 (239) (io), L3 M1 (242) (in), L4 I/O (255) (io), L5 I/O (276) (io), L6 I/O (294) (io), L8 I/O (315) (io), L9 I/O (333) (io), L10 I/O (354) (io), L11 I/O, GCK4 (363) (io), L12 I/O (D7) (366) (io), L13 I/O, GCK5 (369) (io), M2 M0 (245) (in), M3 I/O, GCK3 (246) (io), M4 I/O (258) (io), M5 I/O (279) (io), M6 I/O (297) (io), M7 I/O (INIT) (303) (io), M8 I/O (312) (io), M9 I/O (330) (io), M10 I/O (351) (io), M11 I/O (360) (io), M12 DONE (io), M13 PROGRAM (in), N2 PWRDWN (in), N3 I/O (HDC) (249) (io), N4 I/O (LDC) (261) (io), N5 I/O (282) (io), N6 I/O (300) (io), N8 I/O (309) (io), N9 I/O (327) (io), N10 I/O (348) (io), N11 I/O (357) (io)
part B pins: A1 GND (power), A4 GND (power), A12 GND (power), B2 VCC (power), B12 VCC (power), C7 GND (power), C9 GND (power), D1 GND (power), D7 VCC (power), E10 GND (power), G1 VCC (power), G2 GND (power), G11 GND (power), G13 VCC (power), J3 GND (power), J10 GND (power), K5 GND (power), K9 GND (power), L7 GND (power), M1 GND (power), N1 VCC (power), N7 VCC (power), N12 GND (power), N13 VCC (power)

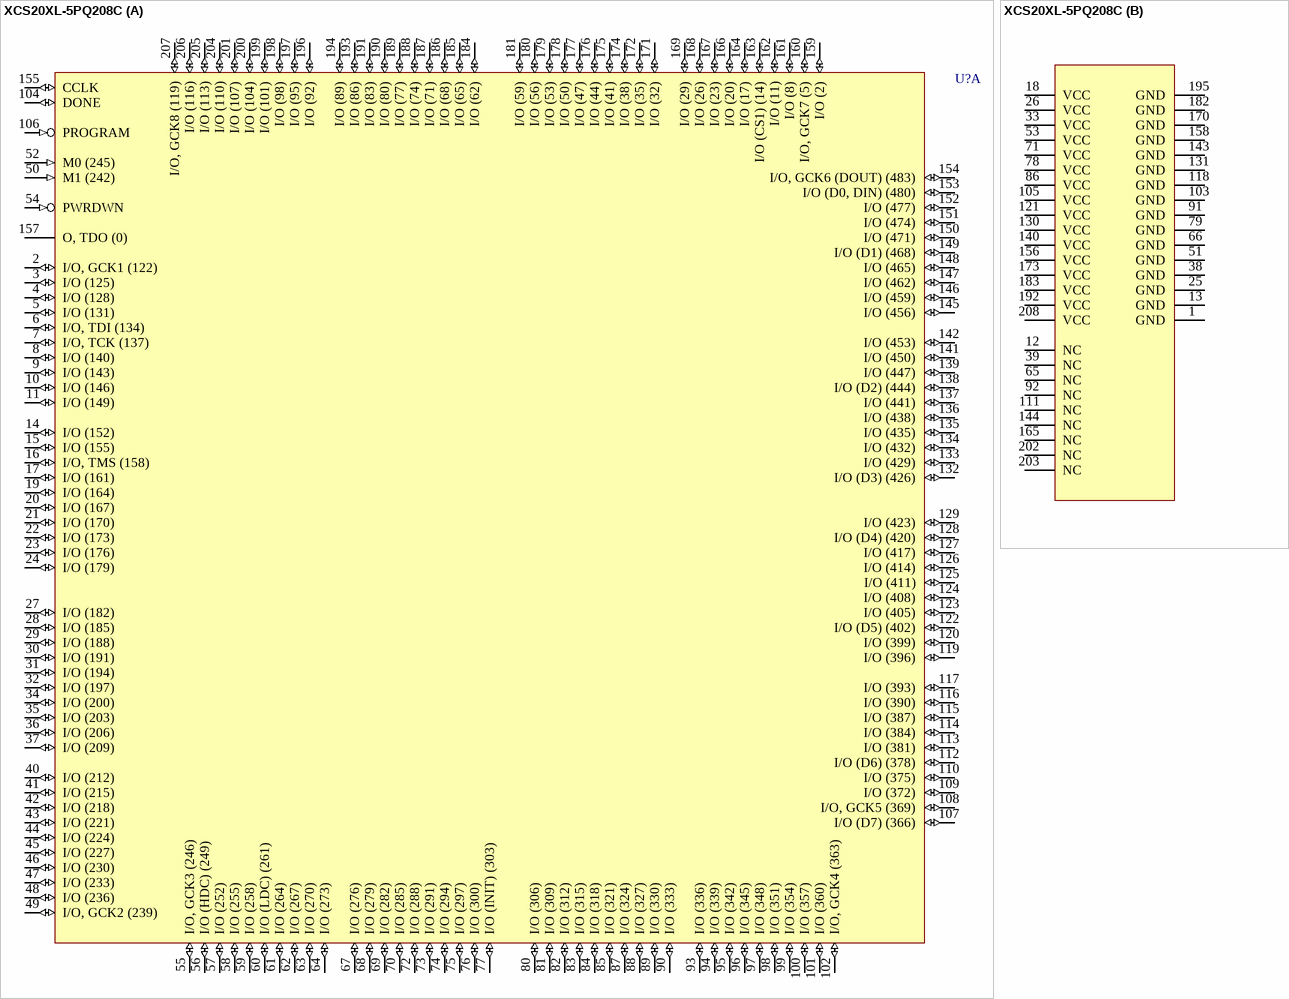
[diagram p9: symbol XCS20XL-5PQ208C]

## XCS20XL-5PQ208C
designator U?
Spartan XL FPGA, 208-Pin PQFP, Commercial Grade; Published: 13-Jul-2001; LatestRevisionDate: 13-Apr-2006; LatestRevisionNote: IPC-7351 Footprint Added.; DatasheetVersion: Jun-2002; PackageVersion: ver1.2, Jun-2004; PackageReference: PQ208; Publisher: Altium Limited; PackageDescription: 208-Pin Plastic Quad Flat Pack (PQ208); Code_JEDEC: MS-029-FA-1; ComponentLink1Description: Manufacturer Link; ComponentLink1URL: http://www.xilinx.com/xlnx/xil_prodcat_landingpage.jsp?title=Spartan; ComponentLink2Description: Datasheet; ComponentLink2URL: http://www.xilinx.com/bvdocs/publications/ds060.pdf
footprint PQ208_N (Shrink QFP, 208-Leads, Body 28x28mm, Pitch 0.5mm, IPC Medium Density)
footprint PQ208_L (Shrink QFP, 208-Leads, Body 28x28mm, Pitch 0.5mm, IPC High Density)
footprint PQ208_M (Shrink QFP, 208-Leads, Body 28x28mm, Pitch 0.5mm, IPC Low Density)
3D model XCS20XL-PQ208 (208-Pin Plastic Quad Flat Pack (PQ208))
part A pins: 2 I/O, GCK1 (122) (io), 3 I/O (125) (io), 4 I/O (128) (io), 5 I/O (131) (io), 6 I/O, TDI (134) (io), 7 I/O, TCK (137) (io), 8 I/O (140) (io), 9 I/O (143) (io), 10 I/O (146) (io), 11 I/O (149) (io), 14 I/O (152) (io), 15 I/O (155) (io), 16 I/O, TMS (158) (io), 17 I/O (161) (io), 19 I/O (164) (io), 20 I/O (167) (io), 21 I/O (170) (io), 22 I/O (173) (io), 23 I/O (176) (io), 24 I/O (179) (io), 27 I/O (182) (io), 28 I/O (185) (io), 29 I/O (188) (io), 30 I/O (191) (io), 31 I/O (194) (io), 32 I/O (197) (io), 34 I/O (200) (io), 35 I/O (203) (io), 36 I/O (206) (io), 37 I/O (209) (io), 40 I/O (212) (io), 41 I/O (215) (io), 42 I/O (218) (io), 43 I/O (221) (io), 44 I/O (224) (io), 45 I/O (227) (io), 46 I/O (230) (io), 47 I/O (233) (io), 48 I/O (236) (io), 49 I/O, GCK2 (239) (io), 50 M1 (242) (in), 52 M0 (245) (in), 54 PWRDWN (in), 55 I/O, GCK3 (246) (io), 56 I/O (HDC) (249) (io), 57 I/O (252) (io), 58 I/O (255) (io), 59 I/O (258) (io), 60 I/O (LDC) (261) (io), 61 I/O (264) (io), 62 I/O (267) (io), 63 I/O (270) (io), 64 I/O (273) (io), 67 I/O (276) (io), 68 I/O (279) (io), 69 I/O (282) (io), 70 I/O (285) (io), 72 I/O (288) (io), 73 I/O (291) (io), 74 I/O (294) (io), 75 I/O (297) (io), 76 I/O (300) (io), 77 I/O (INIT) (303) (io), 80 I/O (306) (io), 81 I/O (309) (io), 82 I/O (312) (io), 83 I/O (315) (io), 84 I/O (318) (io), 85 I/O (321) (io), 87 I/O (324) (io), 88 I/O (327) (io), 89 I/O (330) (io), 90 I/O (333) (io), 93 I/O (336) (io), 94 I/O (339) (io), 95 I/O (342) (io), 96 I/O (345) (io), 97 I/O (348) (io), 98 I/O (351) (io), 99 I/O (354) (io), 100 I/O (357) (io), 101 I/O (360) (io), 102 I/O, GCK4 (363) (io), 104 DONE (io), 106 PROGRAM (in), 107 I/O (D7) (366) (io), 108 I/O, GCK5 (369) (io), 109 I/O (372) (io), 110 I/O (375) (io), 112 I/O (D6) (378) (io), 113 I/O (381) (io), 114 I/O (384) (io), 115 I/O (387) (io), 116 I/O (390) (io), 117 I/O (393) (io), 119 I/O (396) (io), 120 I/O (399) (io), 122 I/O (D5) (402) (io), 123 I/O (405) (io), 124 I/O (408) (io), 125 I/O (411) (io), 126 I/O (414) (io), 127 I/O (417) (io), 128 I/O (D4) (420) (io), 129 I/O (423) (io), 132 I/O (D3) (426) (io), 133 I/O (429) (io), 134 I/O (432) (io), 135 I/O (435) (io), 136 I/O (438) (io), 137 I/O (441) (io), 138 I/O (D2) (444) (io), 139 I/O (447) (io), 141 I/O (450) (io), 142 I/O (453) (io), 145 I/O (456) (io), 146 I/O (459) (io), 147 I/O (462) (io), 148 I/O (465) (io), 149 I/O (D1) (468) (io), 150 I/O (471) (io), 151 I/O (474) (io), 152 I/O (477) (io), 153 I/O (D0, DIN) (480) (io), 154 I/O, GCK6 (DOUT) (483) (io), 155 CCLK (io), 157 O, TDO (0) (hiz), 159 I/O (2) (io), 160 I/O, GCK7 (5) (io), 161 I/O (8) (io), 162 I/O (11) (io), 163 I/O (CS1) (14) (io), 164 I/O (17) (io), 166 I/O (20) (io), 167 I/O (23) (io), 168 I/O (26) (io), 169 I/O (29) (io), 171 I/O (32) (io), 172 I/O (35) (io), 174 I/O (38) (io), 175 I/O (41) (io), 176 I/O (44) (io), 177 I/O (47) (io), 178 I/O (50) (io), 179 I/O (53) (io), 180 I/O (56) (io), 181 I/O (59) (io), 184 I/O (62) (io), 185 I/O (65) (io), 186 I/O (68) (io), 187 I/O (71) (io), 188 I/O (74) (io), 189 I/O (77) (io), 190 I/O (80) (io), 191 I/O (83) (io), 193 I/O (86) (io), 194 I/O (89) (io), 196 I/O (92) (io), 197 I/O (95) (io), 198 I/O (98) (io), 199 I/O (101) (io), 200 I/O (104) (io), 201 I/O (107) (io), 204 I/O (110) (io), 205 I/O (113) (io), 206 I/O (116) (io), 207 I/O, GCK8 (119) (io)
part B pins: 1 GND (power), 12 NC, 13 GND (power), 18 VCC (power), 25 GND (power), 26 VCC (power), 33 VCC (power), 38 GND (power), 39 NC, 51 GND (power), 53 VCC (power), 65 NC, 66 GND (power), 71 VCC (power), 78 VCC (power), 79 GND (power), 86 VCC (power), 91 GND (power), 92 NC, 103 GND (power), 105 VCC (power), 111 NC, 118 GND (power), 121 VCC (power), 130 VCC (power), 131 GND (power), 140 VCC (power), 143 GND (power), 144 NC, 156 VCC (power), 158 GND (power), 165 NC, 170 GND (power), 173 VCC (power), 182 GND (power), 183 VCC (power), 192 VCC (power), 195 GND (power), 202 NC, 203 NC, 208 VCC (power)

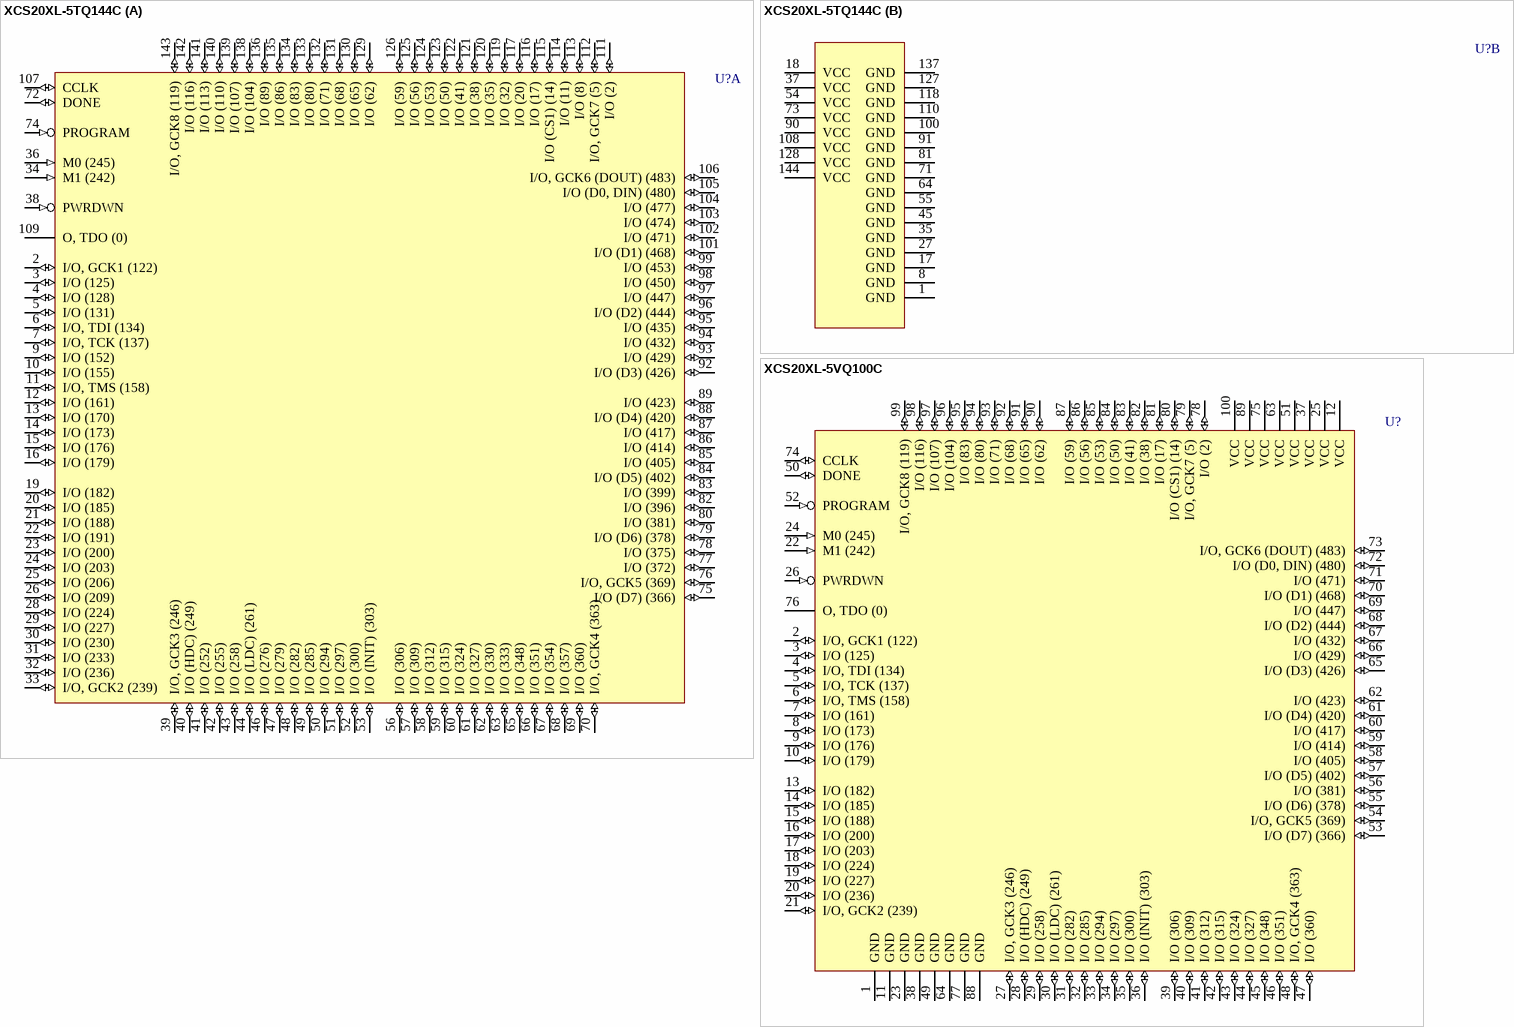
[diagram p10: symbols XCS20XL-5TQ144C to XCS20XL-5VQ100C]

## XCS20XL-5TQ144C
designator U?
Spartan XL FPGA, 144-Pin TQFP, Commercial Grade; Published: 13-Jul-2001; LatestRevisionDate: 13-Apr-2006; LatestRevisionNote: IPC-7351 Footprint Added.; DatasheetVersion: Jun-2002; PackageVersion: ver1.2, Jun-2004; PackageReference: TQ144; Publisher: Altium Limited; PackageDescription: 144-Pin Thin Quad Flat Pack (TQ144); Code_JEDEC: MS-026-BFB; ComponentLink1Description: Manufacturer Link; ComponentLink1URL: http://www.xilinx.com/xlnx/xil_prodcat_landingpage.jsp?title=Spartan; ComponentLink2Description: Datasheet; ComponentLink2URL: http://www.xilinx.com/bvdocs/publications/ds060.pdf
footprint TQ144_N (Thin QFP, 144-Leads, Body 20x20mm, Pitch 0.5mm, IPC Medium Density)
footprint TQ144_L (Thin QFP, 144-Leads, Body 20x20mm, Pitch 0.5mm, IPC High Density)
footprint TQ144_M (Thin QFP, 144-Leads, Body 20x20mm, Pitch 0.5mm, IPC Low Density)
3D model XCS20XL-TQ144 (144-Pin Thin Quad Flat Pack (TQ144))
part A pins: 2 I/O, GCK1 (122) (io), 3 I/O (125) (io), 4 I/O (128) (io), 5 I/O (131) (io), 6 I/O, TDI (134) (io), 7 I/O, TCK (137) (io), 9 I/O (152) (io), 10 I/O (155) (io), 11 I/O, TMS (158) (io), 12 I/O (161) (io), 13 I/O (170) (io), 14 I/O (173) (io), 15 I/O (176) (io), 16 I/O (179) (io), 19 I/O (182) (io), 20 I/O (185) (io), 21 I/O (188) (io), 22 I/O (191) (io), 23 I/O (200) (io), 24 I/O (203) (io), 25 I/O (206) (io), 26 I/O (209) (io), 28 I/O (224) (io), 29 I/O (227) (io), 30 I/O (230) (io), 31 I/O (233) (io), 32 I/O (236) (io), 33 I/O, GCK2 (239) (io), 34 M1 (242) (in), 36 M0 (245) (in), 38 PWRDWN (in), 39 I/O, GCK3 (246) (io), 40 I/O (HDC) (249) (io), 41 I/O (252) (io), 42 I/O (255) (io), 43 I/O (258) (io), 44 I/O (LDC) (261) (io), 46 I/O (276) (io), 47 I/O (279) (io), 48 I/O (282) (io), 49 I/O (285) (io), 50 I/O (294) (io), 51 I/O (297) (io), 52 I/O (300) (io), 53 I/O (INIT) (303) (io), 56 I/O (306) (io), 57 I/O (309) (io), 58 I/O (312) (io), 59 I/O (315) (io), 60 I/O (324) (io), 61 I/O (327) (io), 62 I/O (330) (io), 63 I/O (333) (io), 65 I/O (348) (io), 66 I/O (351) (io), 67 I/O (354) (io), 68 I/O (357) (io), 69 I/O (360) (io), 70 I/O, GCK4 (363) (io), 72 DONE (io), 74 PROGRAM (in), 75 I/O (D7) (366) (io), 76 I/O, GCK5 (369) (io), 77 I/O (372) (io), 78 I/O (375) (io), 79 I/O (D6) (378) (io), 80 I/O (381) (io), 82 I/O (396) (io), 83 I/O (399) (io), 84 I/O (D5) (402) (io), 85 I/O (405) (io), 86 I/O (414) (io), 87 I/O (417) (io), 88 I/O (D4) (420) (io), 89 I/O (423) (io), 92 I/O (D3) (426) (io), 93 I/O (429) (io), 94 I/O (432) (io), 95 I/O (435) (io), 96 I/O (D2) (444) (io), 97 I/O (447) (io), 98 I/O (450) (io), 99 I/O (453) (io), 101 I/O (D1) (468) (io), 102 I/O (471) (io), 103 I/O (474) (io), 104 I/O (477) (io), 105 I/O (D0, DIN) (480) (io), 106 I/O, GCK6 (DOUT) (483) (io), 107 CCLK (io), 109 O, TDO (0) (hiz), 111 I/O (2) (io), 112 I/O, GCK7 (5) (io), 113 I/O (8) (io), 114 I/O (11) (io), 115 I/O (CS1) (14) (io), 116 I/O (17) (io), 117 I/O (20) (io), 119 I/O (32) (io), 120 I/O (35) (io), 121 I/O (38) (io), 122 I/O (41) (io), 123 I/O (50) (io), 124 I/O (53) (io), 125 I/O (56) (io), 126 I/O (59) (io), 129 I/O (62) (io), 130 I/O (65) (io), 131 I/O (68) (io), 132 I/O (71) (io), 133 I/O (80) (io), 134 I/O (83) (io), 135 I/O (86) (io), 136 I/O (89) (io), 138 I/O (104) (io), 139 I/O (107) (io), 140 I/O (110) (io), 141 I/O (113) (io), 142 I/O (116) (io), 143 I/O, GCK8 (119) (io)
part B pins: 1 GND (power), 8 GND (power), 17 GND (power), 18 VCC (power), 27 GND (power), 35 GND (power), 37 VCC (power), 45 GND (power), 54 VCC (power), 55 GND (power), 64 GND (power), 71 GND (power), 73 VCC (power), 81 GND (power), 90 VCC (power), 91 GND (power), 100 GND (power), 108 VCC (power), 110 GND (power), 118 GND (power), 127 GND (power), 128 VCC (power), 137 GND (power), 144 VCC (power)

## XCS20XL-5VQ100C
designator U?
Spartan XL FPGA, 100-Pin VQFP, Commercial Grade; Published: 13-Jul-2001; LatestRevisionDate: 13-Apr-2006; LatestRevisionNote: IPC-7351 Footprint Added.; DatasheetVersion: Jun-2002; PackageVersion: ver1.2, Jun-2004; PackageReference: VQ100; Publisher: Altium Limited; PackageDescription: 100-Pin Very Thin Quad Flat Pack (VQ100); Code_JEDEC: MS-026-AED; ComponentLink1Description: Manufacturer Link; ComponentLink1URL: http://www.xilinx.com/xlnx/xil_prodcat_landingpage.jsp?title=Spartan; ComponentLink2Description: Datasheet; ComponentLink2URL: http://www.xilinx.com/bvdocs/publications/ds060.pdf
footprint VQ100_N (Thin QFP, 100-Leads, Body 14x14mm, Pitch 0.5mm, IPC Medium Density)
footprint VQ100_L (Thin QFP, 100-Leads, Body 14x14mm, Pitch 0.5mm, IPC High Density)
footprint VQ100_M (Thin QFP, 100-Leads, Body 14x14mm, Pitch 0.5mm, IPC Low Density)
3D model XCS20XL-VQ100 (100-Pin Very Thin Quad Flat Pack (VQ100))
pins: 1 GND (power), 2 I/O, GCK1 (122) (io), 3 I/O (125) (io), 4 I/O, TDI (134) (io), 5 I/O, TCK (137) (io), 6 I/O, TMS (158) (io), 7 I/O (161) (io), 8 I/O (173) (io), 9 I/O (176) (io), 10 I/O (179) (io), 11 GND (power), 12 VCC (power), 13 I/O (182) (io), 14 I/O (185) (io), 15 I/O (188) (io), 16 I/O (200) (io), 17 I/O (203) (io), 18 I/O (224) (io), 19 I/O (227) (io), 20 I/O (236) (io), 21 I/O, GCK2 (239) (io), 22 M1 (242) (in), 23 GND (power), 24 M0 (245) (in), 25 VCC (power), 26 PWRDWN (in), 27 I/O, GCK3 (246) (io), 28 I/O (HDC) (249) (io), 29 I/O (258) (io), 30 I/O (LDC) (261) (io), 31 I/O (282) (io), 32 I/O (285) (io), 33 I/O (294) (io), 34 I/O (297) (io), 35 I/O (300) (io), 36 I/O (INIT) (303) (io), 37 VCC (power), 38 GND (power), 39 I/O (306) (io), 40 I/O (309) (io), 41 I/O (312) (io), 42 I/O (315) (io), 43 I/O (324) (io), 44 I/O (327) (io), 45 I/O (348) (io), 46 I/O (351) (io), 47 I/O (360) (io), 48 I/O, GCK4 (363) (io), 49 GND (power), 50 DONE (io), 51 VCC (power), 52 PROGRAM (in), 53 I/O (D7) (366) (io), 54 I/O, GCK5 (369) (io), 55 I/O (D6) (378) (io), 56 I/O (381) (io), 57 I/O (D5) (402) (io), 58 I/O (405) (io), 59 I/O (414) (io), 60 I/O (417) (io), 61 I/O (D4) (420) (io), 62 I/O (423) (io), 63 VCC (power), 64 GND (power), 65 I/O (D3) (426) (io), 66 I/O (429) (io), 67 I/O (432) (io), 68 I/O (D2) (444) (io), 69 I/O (447) (io), 70 I/O (D1) (468) (io), 71 I/O (471) (io), 72 I/O (D0, DIN) (480) (io), 73 I/O, GCK6 (DOUT) (483) (io), 74 CCLK (io), 75 VCC (power), 76 O, TDO (0) (hiz), 77 GND (power), 78 I/O (2) (io), 79 I/O, GCK7 (5) (io), 80 I/O (CS1) (14) (io), 81 I/O (17) (io), 82 I/O (38) (io), 83 I/O (41) (io), 84 I/O (50) (io), 85 I/O (53) (io), 86 I/O (56) (io), 87 I/O (59) (io), 88 GND (power), 89 VCC (power), 90 I/O (62) (io), 91 I/O (65) (io), 92 I/O (68) (io), 93 I/O (71) (io), 94 I/O (80) (io), 95 I/O (83) (io), 96 I/O (104) (io), 97 I/O (107) (io), 98 I/O (116) (io), 99 I/O, GCK8 (119) (io), 100 VCC (power)

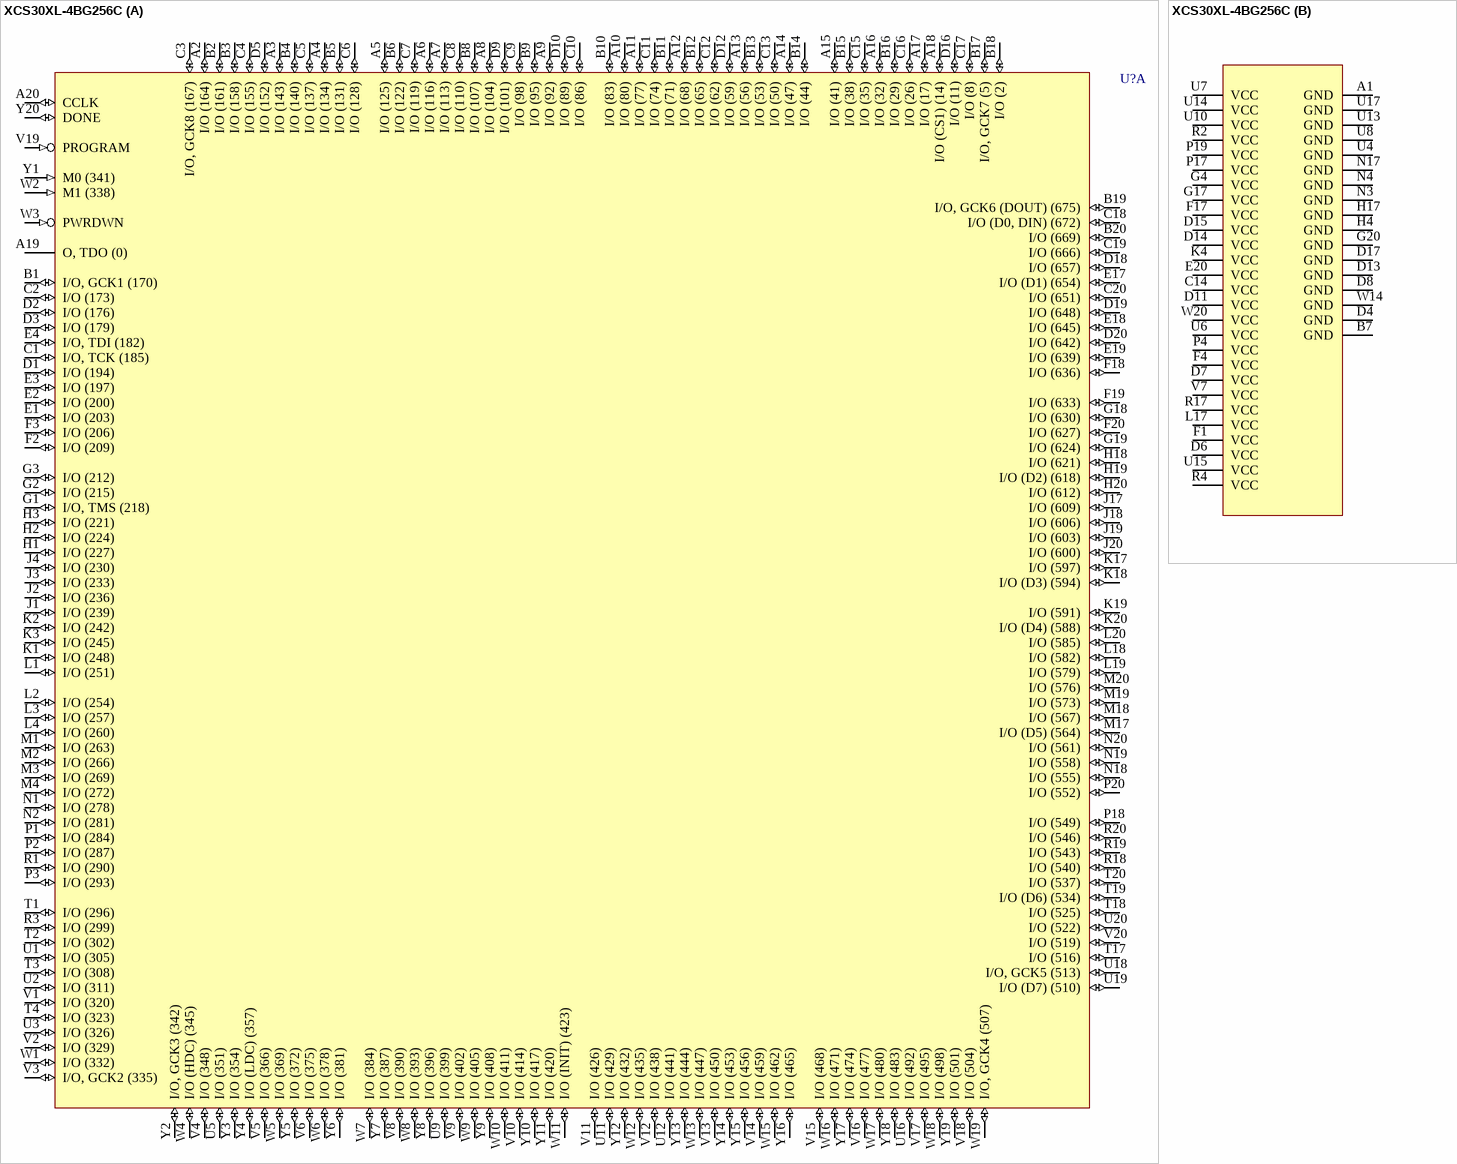
[diagram p11: symbol XCS30XL-4BG256C]

## XCS30XL-4BG256C
designator U?
Spartan XL FPGA, 256-Ball BGA, Commercial Grade; Published: 13-Jul-2001; LatestRevisionDate: 13-Apr-2006; LatestRevisionNote: IPC-7351 Footprint Added.; DatasheetVersion: Jun-2002; PackageVersion: ver1.1, Apr-2001; PackageReference: BG256; Publisher: Altium Limited; PackageDescription: 256-Ball Plastic Ball Grid Array (BG256); Code_JEDEC: MS-034-BAL-2; ComponentLink1Description: Manufacturer Link; ComponentLink1URL: http://www.xilinx.com/xlnx/xil_prodcat_landingpage.jsp?title=Spartan; ComponentLink2Description: Datasheet; ComponentLink2URL: http://www.xilinx.com/bvdocs/publications/ds060.pdf
footprint BG256 (BGA, 256-Leads, Body 27x27mm, Pitch 1.27mm)
3D model XCS30XL-BG256 (256-Ball Plastic Ball Grid Array (BG256))
part A pins: A2 I/O (164) (io), A3 I/O (143) (io), A4 I/O (134) (io), A5 I/O (125) (io), A6 I/O (116) (io), A7 I/O (113) (io), A8 I/O (104) (io), A9 I/O (92) (io), A10 I/O (80) (io), A11 I/O (77) (io), A12 I/O (68) (io), A13 I/O (56) (io), A14 I/O (47) (io), A15 I/O (41) (io), A16 I/O (32) (io), A17 I/O (17) (io), A18 I/O (CS1) (14) (io), A19 O, TDO (0) (hiz), A20 CCLK (io), B1 I/O, GCK1 (170) (io), B2 I/O (161) (io), B3 I/O (158) (io), B4 I/O (140) (io), B5 I/O (131) (io), B6 I/O (122) (io), B8 I/O (107) (io), B9 I/O (95) (io), B10 I/O (83) (io), B11 I/O (71) (io), B12 I/O (65) (io), B13 I/O (53) (io), B14 I/O (44) (io), B15 I/O (38) (io), B16 I/O (29) (io), B17 I/O, GCK7 (5) (io), B18 I/O (2) (io), B19 I/O, GCK6 (DOUT) (675) (io), B20 I/O (669) (io), C1 I/O, TCK (185) (io), C2 I/O (173) (io), C3 I/O, GCK8 (167) (io), C4 I/O (155) (io), C5 I/O (137) (io), C6 I/O (128) (io), C7 I/O (119) (io), C8 I/O (110) (io), C9 I/O (98) (io), C10 I/O (86) (io), C11 I/O (74) (io), C12 I/O (62) (io), C13 I/O (50) (io), C15 I/O (35) (io), C16 I/O (26) (io), C17 I/O (8) (io), C18 I/O (D0, DIN) (672) (io), C19 I/O (666) (io), C20 I/O (651) (io), D1 I/O (194) (io), D2 I/O (176) (io), D3 I/O (179) (io), D5 I/O (152) (io), D9 I/O (101) (io), D10 I/O (89) (io), D12 I/O (59) (io), D16 I/O (11) (io), D18 I/O (657) (io), D19 I/O (648) (io), D20 I/O (642) (io), E1 I/O (203) (io), E2 I/O (200) (io), E3 I/O (197) (io), E4 I/O, TDI (182) (io), E17 I/O (D1) (654) (io), E18 I/O (645) (io), E19 I/O (639) (io), F2 I/O (209) (io), F3 I/O (206) (io), F18 I/O (636) (io), F19 I/O (633) (io), F20 I/O (627) (io), G1 I/O, TMS (218) (io), G2 I/O (215) (io), G3 I/O (212) (io), G18 I/O (630) (io), G19 I/O (624) (io), H1 I/O (227) (io), H2 I/O (224) (io), H3 I/O (221) (io), H18 I/O (621) (io), H19 I/O (D2) (618) (io), H20 I/O (612) (io), J1 I/O (239) (io), J2 I/O (236) (io), J3 I/O (233) (io), J4 I/O (230) (io), J17 I/O (609) (io), J18 I/O (606) (io), J19 I/O (603) (io), J20 I/O (600) (io), K1 I/O (248) (io), K2 I/O (242) (io), K3 I/O (245) (io), K17 I/O (597) (io), K18 I/O (D3) (594) (io), K19 I/O (591) (io), K20 I/O (D4) (588) (io), L1 I/O (251) (io), L2 I/O (254) (io), L3 I/O (257) (io), L4 I/O (260) (io), L18 I/O (582) (io), L19 I/O (579) (io), L20 I/O (585) (io), M1 I/O (263) (io), M2 I/O (266) (io), M3 I/O (269) (io), M4 I/O (272) (io), M17 I/O (D5) (564) (io), M18 I/O (567) (io), M19 I/O (573) (io), M20 I/O (576) (io), N1 I/O (278) (io), N2 I/O (281) (io), N18 I/O (555) (io), N19 I/O (558) (io), N20 I/O (561) (io), P1 I/O (284) (io), P2 I/O (287) (io), P3 I/O (293) (io), P18 I/O (549) (io), P20 I/O (552) (io), R1 I/O (290) (io), R3 I/O (299) (io), R18 I/O (540) (io), R19 I/O (543) (io), R20 I/O (546) (io), T1 I/O (296) (io), T2 I/O (302) (io), T3 I/O (308) (io), T4 I/O (323) (io), T17 I/O (516) (io), T18 I/O (525) (io), T19 I/O (D6) (534) (io), T20 I/O (537) (io), U1 I/O (305) (io), U2 I/O (311) (io), U3 I/O (326) (io), U5 I/O (351) (io), U9 I/O (399) (io), U11 I/O (429) (io), U12 I/O (441) (io), U16 I/O (492) (io), U18 I/O, GCK5 (513) (io), U19 I/O (D7) (510) (io), U20 I/O (522) (io), V1 I/O (320) (io), V2 I/O (329) (io), V3 I/O, GCK2 (335) (io), V4 I/O (348) (io), V5 I/O (366) (io), V6 I/O (375) (io), V8 I/O (390) (io), V9 I/O (402) (io), V10 I/O (414) (io), V11 I/O (426) (io), V12 I/O (438) (io), V13 I/O (450) (io), V14 I/O (459) (io), V15 I/O (468) (io), V16 I/O (477) (io), V17 I/O (495) (io), V18 I/O (504) (io), V19 PROGRAM (in), V20 I/O (519) (io), W1 I/O (332) (io), W2 M1 (338) (in), W3 PWRDWN (in), W4 I/O (HDC) (345) (io), W5 I/O (369) (io), W6 I/O (378) (io), W7 I/O (384) (io), W8 I/O (393) (io), W9 I/O (405) (io), W10 I/O (411) (io), W11 I/O (INIT) (423) (io), W12 I/O (435) (io), W13 I/O (447) (io), W15 I/O (462) (io), W16 I/O (471) (io), W17 I/O (480) (io), W18 I/O (498) (io), W19 I/O, GCK4 (507) (io), Y1 M0 (341) (in), Y2 I/O, GCK3 (342) (io), Y3 I/O (354) (io), Y4 I/O (LDC) (357) (io), Y5 I/O (372) (io), Y6 I/O (381) (io), Y7 I/O (387) (io), Y8 I/O (396) (io), Y9 I/O (408) (io), Y10 I/O (417) (io), Y11 I/O (420) (io), Y12 I/O (432) (io), Y13 I/O (444) (io), Y14 I/O (453) (io), Y15 I/O (456) (io), Y16 I/O (465) (io), Y17 I/O (474) (io), Y18 I/O (483) (io), Y19 I/O (501) (io), Y20 DONE (io)
part B pins: A1 GND (power), B7 GND (power), C14 VCC (power), D4 GND (power), D6 VCC (power), D7 VCC (power), D8 GND (power), D11 VCC (power), D13 GND (power), D14 VCC (power), D15 VCC (power), D17 GND (power), E20 VCC (power), F1 VCC (power), F4 VCC (power), F17 VCC (power), G4 VCC (power), G17 VCC (power), G20 GND (power), H4 GND (power), H17 GND (power), K4 VCC (power), L17 VCC (power), N3 GND (power), N4 GND (power), N17 GND (power), P4 VCC (power), P17 VCC (power), P19 VCC (power), R2 VCC (power), R4 VCC (power), R17 VCC (power), U4 GND (power), U6 VCC (power), U7 VCC (power), U8 GND (power), U10 VCC (power), U13 GND (power), U14 VCC (power), U15 VCC (power), U17 GND (power), V7 VCC (power), W14 GND (power), W20 VCC (power)

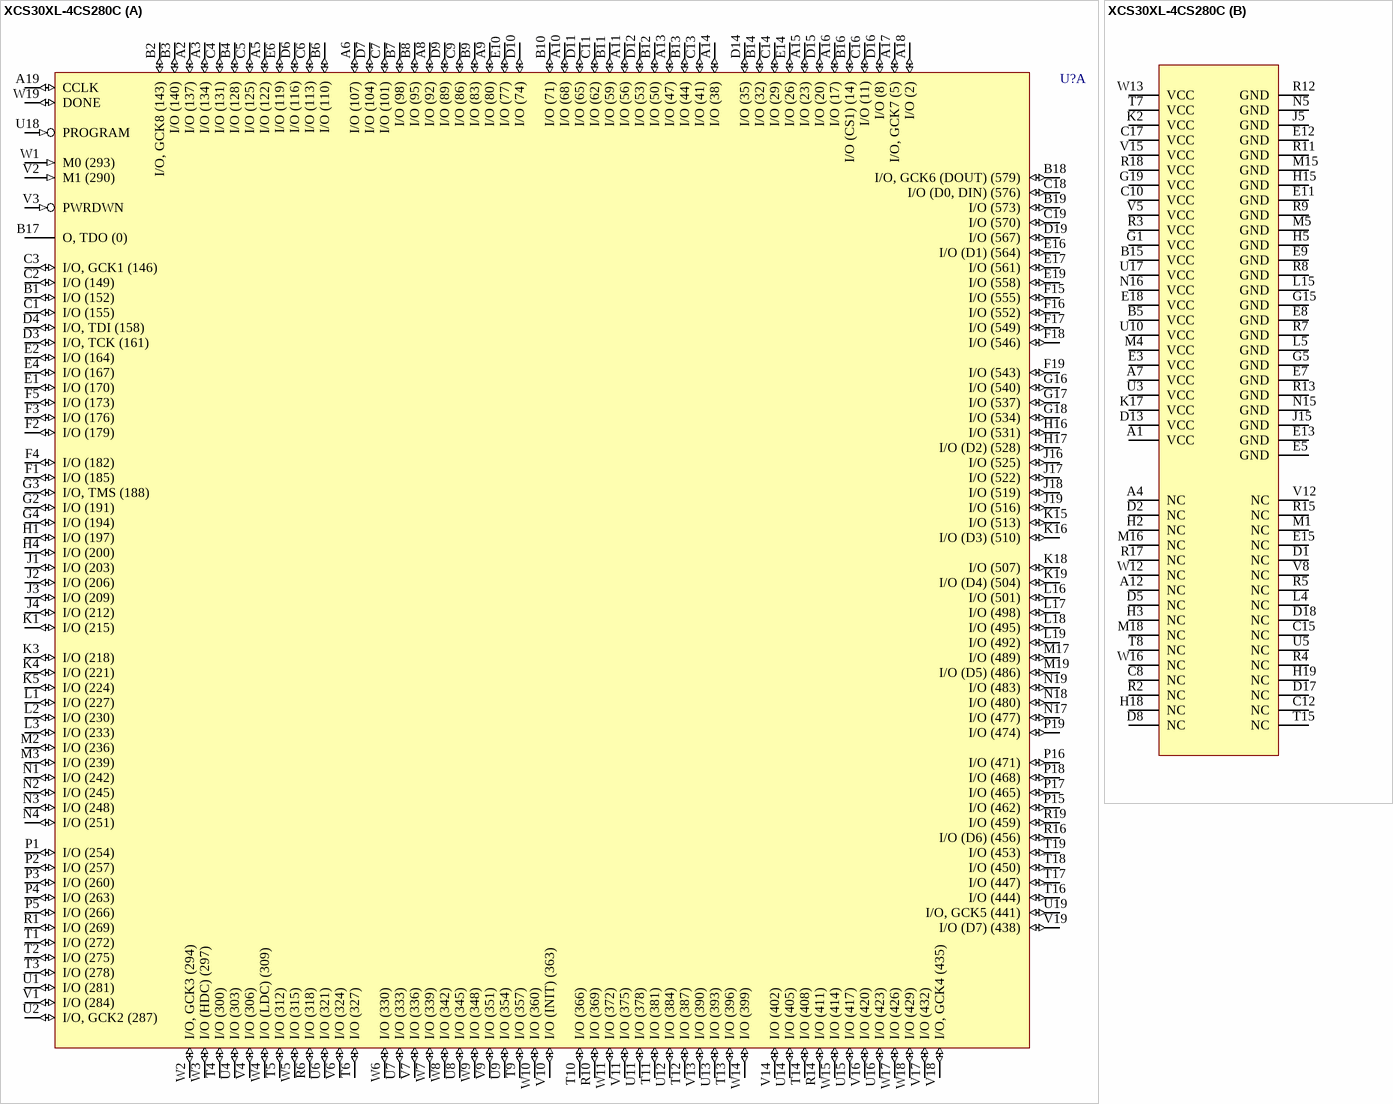
[diagram p12: symbol XCS30XL-4CS280C]